# Altium footprint library SN-Lable.PcbLib: 1 footprints
Each footprint in its own frame and in the unit in brackets; x right, y up, seen from the top. Pads: shape width x height; smd on the part's side, far side on the other; paste and mask are expansions set on the pad; w line width, h text height; cw(c..) or ccw(c..) is an arc to the next point about the centre after c.
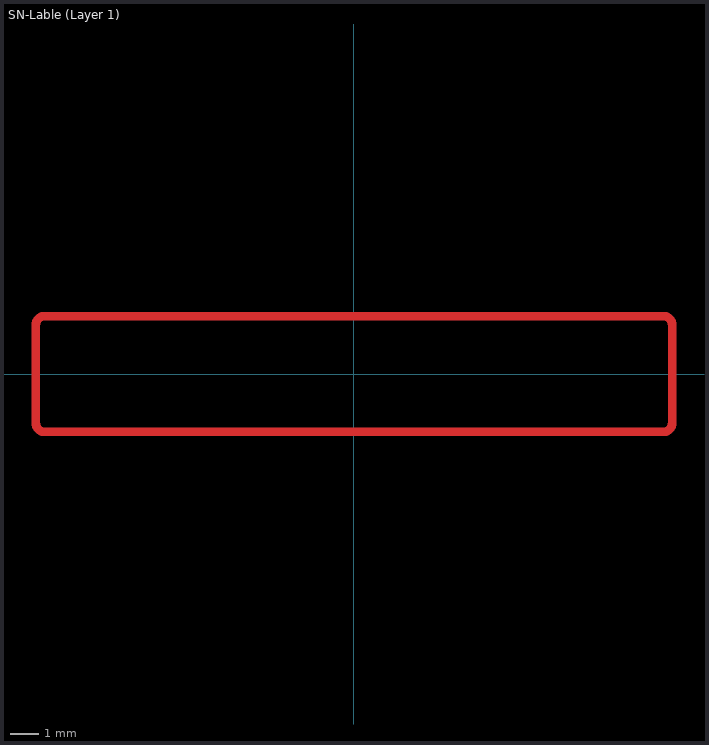
[diagram p0: the footprint, top view; thin cyan lines are the x and y axes]

## SN-Lable (Layer 1) [mm]
Top Layer:
  lines w0.3: -11,-1.7 ccw(c-10.7,-1.7) -10.7,-2 10.7,-2 ccw(c10.7,-1.7) 11,-1.7 11,1.7 ccw(c10.7,1.7) 10.7,2 -10.7,2 ccw(c-10.7,1.7) -11,1.7 -11,-1.7
  text "'.Block' '.ProjectRevision'" at -10.727,-0.452 h2
Top Solder:
  lines w0.3: -11,-1.7 ccw(c-10.7,-1.7) -10.7,-2 10.7,-2 ccw(c10.7,-1.7) 11,-1.7 11,1.7 ccw(c10.7,1.7) 10.7,2 -10.7,2 ccw(c-10.7,1.7) -11,1.7 -11,-1.7
  text "'.Block' '.ProjectRevision'" at -10.727,-0.452 h2